# EAGLE library part TRULY-OV5640 (library m_opto)
TRULY OV5640 5 MPixel camera module
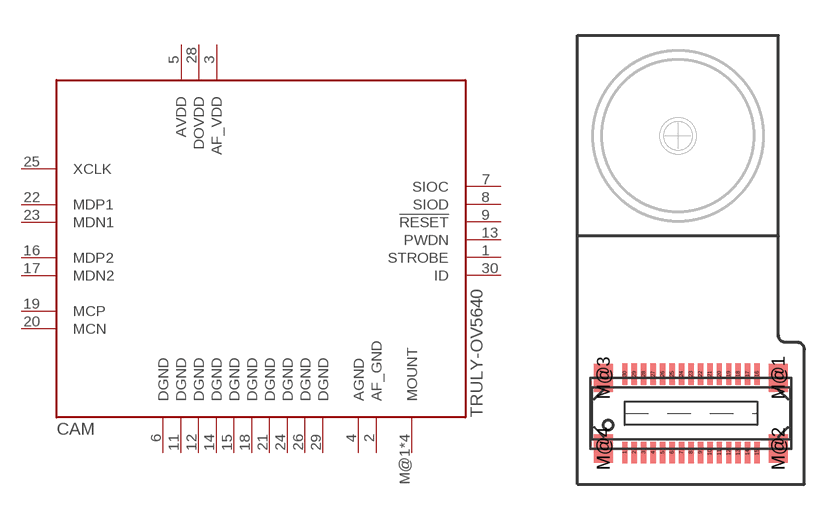
[diagram p9: symbol with the pads of PANASONIC-AXT530124; footprint PANASONIC-AXT530124]

Designator prefix CAM

## TRULY-OV5640 (MANUF: TRULY OPTO-ELECTRONICS LTD.; PARTNUM: CM8487-B500SA-E)  [PANASONIC-AXT530124]
1  STROBE
2  AF_GND
3  AF_VDD
4  AGND
5  AVDD
6  DGND
7  SIOC
8  SIOD
9  !RESET
11  DGND
12  DGND
13  PWDN
14  DGND
15  DGND
16  MDP2
17  MDN2
18  DGND
19  MCP
20  MCN
21  DGND
22  MDP1
23  MDN1
24  DGND
25  XCLK
26  DGND
28  DOVDD
29  DGND
30  ID
M@1  MOUNT
M@2  MOUNT
M@3  MOUNT
M@4  MOUNT

## Footprint PANASONIC-AXT530124 (pad centres in mm)
The counterpart is ATX630124
smd 0.23 x 0.92: 1 -2.8,-1.66; 2 -2.4,-1.66; 3 -2,-1.66; 4 -1.6,-1.66; 5 -1.2,-1.66; 6 -0.8,-1.66; 7 -0.4,-1.66; 8 0,-1.66; 9 0.4,-1.66; 10 0.8,-1.66; 11 1.2,-1.66; 12 1.6,-1.66; 13 2,-1.66; 14 2.4,-1.66; 15 2.8,-1.66; 16 2.8,1.66; 17 2.4,1.66; 18 2,1.66; 19 1.6,1.66; 20 1.2,1.66; 21 0.8,1.66; 22 0.4,1.66; 23 0,1.66; 24 -0.4,1.66; 25 -0.8,1.66; 26 -1.2,1.66; 27 -1.6,1.66; 28 -2,1.66; 29 -2.4,1.66; 30 -2.8,1.66
smd 0.8 x 1.2: M@1 3.7,1.5; M@2 3.7,-1.5; M@3 -3.7,1.5; M@4 -3.7,-1.5